# Altium schematic symbol library QG-2832TSWFG04.SchLib: 1 symbol
Pins are listed as number, name and electrical type; pins without a type are passive.

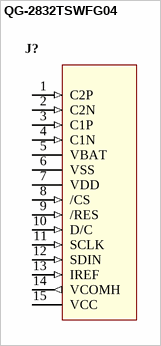
[diagram p0: symbol QG-2832TSWFG04]

## QG-2832TSWFG04
designator J?
pins: 1 C2P (in), 2 C2N (in), 3 C1P (in), 4 C1N (in), 5 VBAT (power), 6 VSS (power), 7 VDD (power), 8 /CS (in), 9 /RES (in), 10 D/C (in), 11 SCLK (in), 12 SDIN (in), 13 IREF (in), 14 VCOMH (out), 15 VCC (power)